# Altium footprint library G-Generator.PCBLIB: 7 footprints
Each footprint in its own frame and in the unit in brackets; x right, y up, seen from the top. Pads: shape width x height; smd on the part's side, far side on the other; paste and mask are expansions set on the pad; w line width, h text height; cw(c..) or ccw(c..) is an arc to the next point about the centre after c.
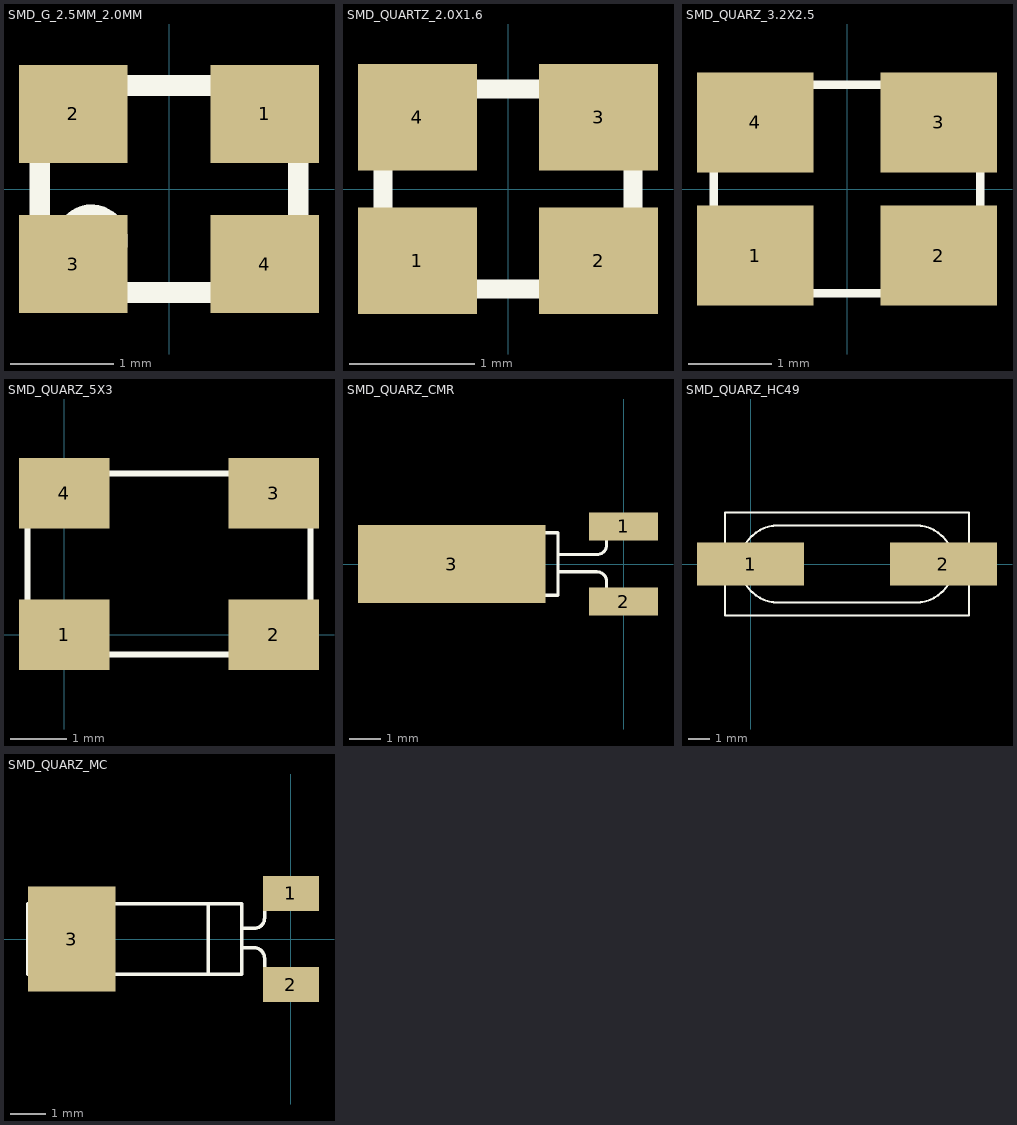
[diagram p0: the footprints below, top view; thin cyan lines are the x and y axes]

## SMD_G_2.5MM_2.0MM [mm] "SMD_G_2.5MM_2.0MM"
height 0.7
pads (4):
  rect 1.05x0.95 smd: 1(0.925,0.725) 2(-0.925,0.725) 3(-0.925,-0.725) 4(0.925,-0.725)
Top Overlay:
  circle w0.254: c-0.75,-0.5 r0.224
  lines w0.2: -1.25,-1 1.25,-1 1.25,1 -1.25,1 -1.25,-1

## SMD_QUARTZ_2.0X1.6 [mm] "SMD_QUARTZ_2.0X1.6"
height 0.5
pads (4):
  rect 0.95x0.85 smd: 1(-0.725,-0.575) 2(0.725,-0.575) 3(0.725,0.575) 4(-0.725,0.575)
Top Overlay:
  circle w0.1: c-0.6,-0.4 r0.15
  lines w0.15: -1,-0.8 1,-0.8 1,0.8 -1,0.8 -1,-0.8

## SMD_QUARZ_3.2X2.5 [mm]
pads (4):
  rect 1.4x1.2 smd: 1(-1.1,-0.8) 2(1.1,-0.8) 3(1.1,0.8) 4(-1.1,0.8)
Top Overlay:
  lines w0.1: -1.6,-0.55 -0.8,-0.55 -0.8,-1.25 ; -1.6,-1.25 1.6,-1.25 1.6,1.25 -1.6,1.25 -1.6,-1.25

## SMD_QUARZ_5X3 [mm]
pads (4):
  rect 1.6x1.25 smd: 1(0,0) 2(3.7,0) 3(3.7,2.5) 4(0,2.5)
Top Overlay:
  circle w0.1: c0.15,-0.35 r0
  lines w0.1: -0.65,-0.35 -0.65,2.85 4.35,2.85 4.35,-0.35 -0.65,-0.35 ; -0.65,0.45 -0.65,0.45
  text "1" at -0.4,-0.05 h0.5

## SMD_QUARZ_CMR [mm]
pads (3):
  rect 2.2x0.9 smd: 1(0,1.2) 2(0,-1.2)
  rect 6x2.5 smd: 3(-5.5,0)
Top Overlay:
  lines w0.1: -2.1,-0.25 -0.85,-0.25 cw(c-0.85,-0.55) -0.55,-0.55 -0.55,-0.9 ccw(c-0.2,-0.9) -0.2,-1.25 0.7,-1.25 ; -2.1,0.3 -1,0.3 -0.85,0.3 ccw(c-0.85,0.6) -0.55,0.6 -0.55,0.95 cw(c-0.2,0.95) -0.2,1.3 0.7,1.3 ; -8.2,-1 -8.2,1 -2.1,1 -2.1,-1 -8.2,-1

## SMD_QUARZ_HC49 [mm]
pads (2):
  rect 5x2 smd: 1(-0.002,0.001) 2(8.998,0.001)
Top Overlay:
  lines w0.1: -1.202,-2.399 -1.202,2.401 10.198,2.401 10.198,-2.399 -1.202,-2.399 ; 1.298,-1.799 cw(c1.298,0.001) 1.298,1.801 7.698,1.801 cw(c7.698,0.001) 7.698,-1.799 1.298,-1.799

## SMD_QUARZ_MC [mm]
pads (3):
  rect 1.6x1 smd: 1(0,1.3) 2(0,-1.3)
  rect 2.5x3 smd: 3(-6.25,0)
Top Overlay:
  lines w0.1: -2.35,-1 -2.35,1 ; -1.4,-0.25 -1.05,-0.25 cw(c-1.05,-0.55) -0.75,-0.55 -0.75,-0.9 ccw(c-0.4,-0.9) -0.4,-1.25 0.5,-1.25 ; -1.4,0.3 -1.05,0.3 ccw(c-1.05,0.6) -0.75,0.6 -0.75,0.95 cw(c-0.4,0.95) -0.4,1.3 0.5,1.3 ; -7.5,-1 -1.4,-1 -1.4,1 -7.5,1 -7.5,-1